# Altium footprint library DFN1006.PcbLib: 1 footprints
Each footprint in its own frame and in the unit in brackets; x right, y up, seen from the top. Pads: shape width x height; smd on the part's side, far side on the other; paste and mask are expansions set on the pad; w line width, h text height; cw(c..) or ccw(c..) is an arc to the next point about the centre after c.
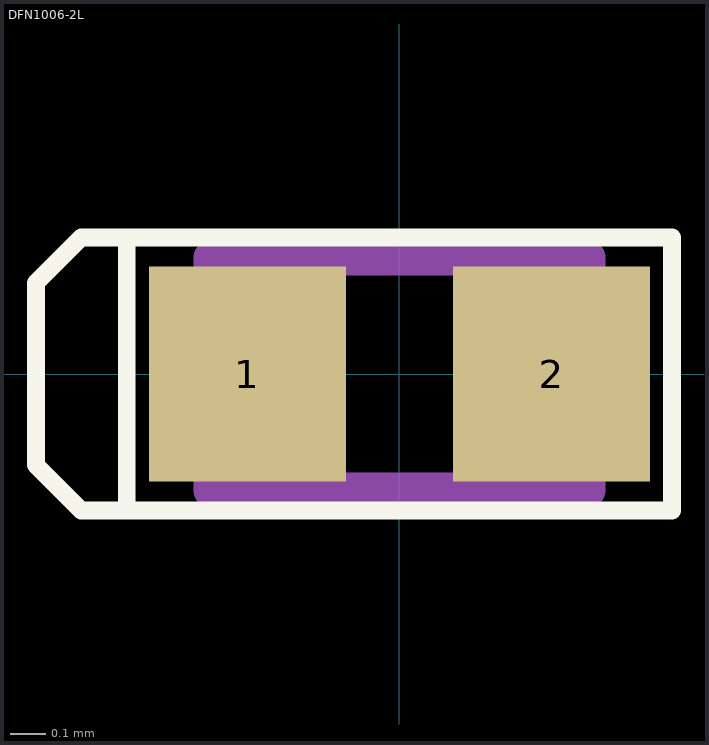
[diagram p0: the footprint, top view; thin cyan lines are the x and y axes]

## DFN1006-2L [mm] "DFN, 2-Leads, Body 0.60x1.00mm, Pitch 0.65mm, IPC Medium Density"
height 0.5
pads (2):
  rect 0.55x0.6 smd: 1(-0.425,0) 2(0.425,0)
Top Overlay:
  lines w0.05: -0.762,-0.381 -0.889,-0.381 -1.016,-0.254 -1.016,0.254 -0.889,0.381 -0.762,0.381 ; -0.762,-0.381 -0.762,0.381 ; -0.762,-0.381 0.762,-0.381 0.762,0.381 -0.762,0.381
Mechanical 13:
  lines w0.1: -0.525,-0.325 -0.525,0.325 0.525,0.325 0.525,-0.325 -0.525,-0.325
3D body "ESD5451N-DFN1006-2L.step": height 0.5, standoff 0, extent -0.525,-0.325 0.525,0.325